# EAGLE library part 20P_MMX_BRD_02 (library bao03)
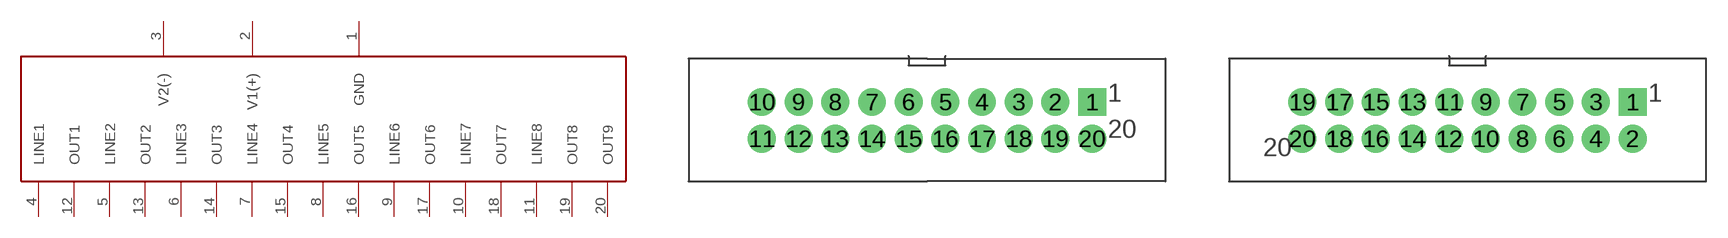
[diagram p2: symbol with the pads of 20._STRIP_CONNECTOR; footprints 20._STRIP_CONNECTOR, 20._STRIP_MMIX_01]

Designator prefix -

## 20P_MMX_BRD_02OLD  [20._STRIP_CONNECTOR]
1  GND
2  V1(+)
3  V2(-)
4  LINE1
5  LINE2
6  LINE3
7  LINE4
8  LINE5
9  LINE6
10  LINE7
11  LINE8
12  OUT1
13  OUT2
14  OUT3
15  OUT4
16  OUT5
17  OUT6
18  OUT7
19  OUT8
20  OUT9

## 20P_MMX_BRD_02ALTERNATED  [20._STRIP_MMIX_01]
1  GND
2  LINE1
3  LINE2
4  LINE3
5  LINE4
6  LINE5
7  LINE6
8  LINE7
9  LINE8
10  OUT1
11  OUT2
12  OUT3
13  OUT4
14  OUT5
15  OUT6
16  OUT7
17  OUT8
18  OUT9
19  V1(+)
20  V2(-)

## Footprint 20._STRIP_CONNECTOR (pad centres in mm)
drill 0.5 pad 1.93 square: 1 11.43,1.27
drill 0.5 pad 1.93: 2 8.89,1.27; 3 6.35,1.27; 4 3.81,1.27; 5 1.27,1.27; 6 -1.27,1.27; 7 -3.81,1.27; 8 -6.35,1.27; 9 -8.89,1.27; 10 -11.43,1.27; 11 -11.43,-1.27; 12 -8.89,-1.27; 13 -6.35,-1.27; 14 -3.81,-1.27; 15 -1.27,-1.27; 16 1.27,-1.27; 17 3.81,-1.27; 18 6.35,-1.27; 19 8.89,-1.27; 20 11.43,-1.27

## Footprint 20._STRIP_MMIX_01 (pad centres in mm)
drill 0.5 pad 1.93 square: 1 11.43,1.27
drill 0.5 pad 1.93: 2 11.43,-1.27; 3 8.89,1.27; 4 8.89,-1.27; 5 6.35,1.27; 6 6.35,-1.27; 7 3.81,1.27; 8 3.81,-1.27; 9 1.27,1.27; 10 1.27,-1.27; 11 -1.27,1.27; 12 -1.27,-1.27; 13 -3.81,1.27; 14 -3.81,-1.27; 15 -6.35,1.27; 16 -6.35,-1.27; 17 -8.89,1.27; 18 -8.89,-1.27; 19 -11.43,1.27; 20 -11.43,-1.27